# Altium footprint library exam01.PcbLib: 1 footprints
Each footprint in its own frame and in the unit in brackets; x right, y up, seen from the top. Pads: shape width x height; smd on the part's side, far side on the other; paste and mask are expansions set on the pad; w line width, h text height; cw(c..) or ccw(c..) is an arc to the next point about the centre after c.
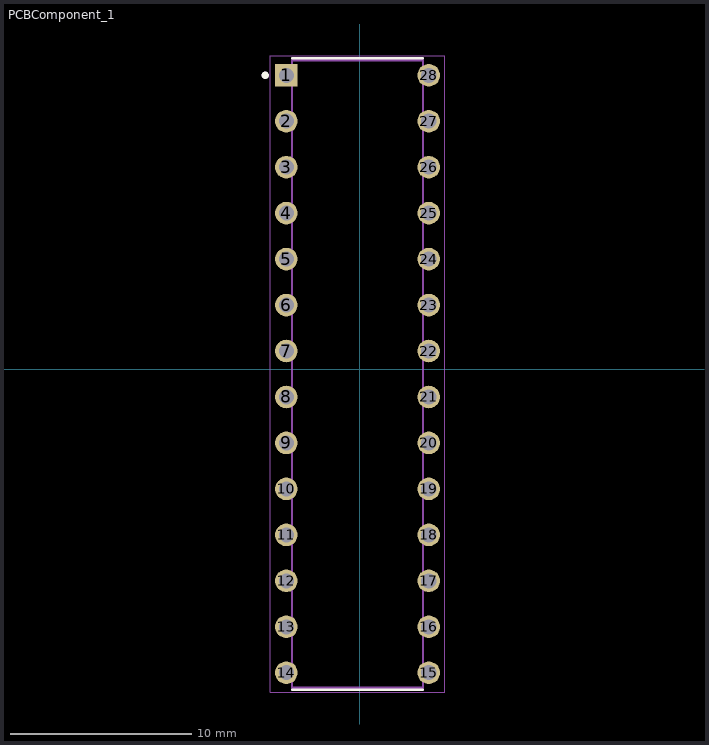
[diagram p0: the footprint, top view; thin cyan lines are the x and y axes]

## PCBComponent_1 [mm]
pads (28):
  rect 1.25x1.25 / inner round 1.25 / far side rect 1.25x1.25 hole 0.83: 1(-4.064,16.256)
  round 1.25 hole 0.83: 2(-4.064,13.716) 3(-4.064,11.176) 4(-4.064,8.636) 5(-4.064,6.096) 6(-4.064,3.556) 7(-4.064,1.016) 8(-4.064,-1.524) 9(-4.064,-4.064) 10(-4.064,-6.604) 11(-4.064,-9.144) 12(-4.064,-11.684) 13(-4.064,-14.224) 14(-4.064,-16.764) 15(3.81,-16.764) 16(3.81,-14.224) 17(3.81,-11.684) 18(3.81,-9.144) 19(3.81,-6.604) 20(3.81,-4.064) 21(3.81,-1.524) 22(3.81,1.016) 23(3.81,3.556) 24(3.81,6.096) 25(3.81,8.636) 26(3.81,11.176) 27(3.81,13.716) 28(3.81,16.256)
Top Overlay:
  circle w0.2: c-5.227,16.256 r0.1
  lines w0.127: -3.746,-17.709 3.492,-17.709 ; -3.746,17.201 3.492,17.201
Mechanical 13:
  circle w0.2: c-5.227,16.256 r0.1
  lines w0.127: -3.746,-17.589 3.492,-17.589 3.492,17.081 -3.746,17.081 -3.746,-17.589
Mechanical 15:
  lines w0.05: -4.939,-17.839 4.685,-17.839 4.685,17.331 -4.939,17.331 -4.939,-17.839
3D body "step_temp.STEP": height 4.57, standoff -3.43, extent -4.077,-17.59 3.823,17.081